# Altium schematic symbol library rectifier_diodes.SchLib: 1 symbol
Pins are listed as number, name and electrical type; pins without a type are passive.

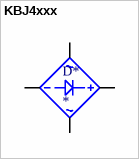
[diagram p0: symbol KBJ4xxx]

## KBJ4xxx
designator D*
Full bridge rectifier
footprint 4KBJ
pins: 1 OUT2, 2 IN2, 3 IN1, 4 OUT1